# EAGLE library part AN221E02 (library Anadigm-1)
AN221E02 1x2 CAB Dynamically Reconfigurable FPAA two configurable I/O cells, two dedicated output cells
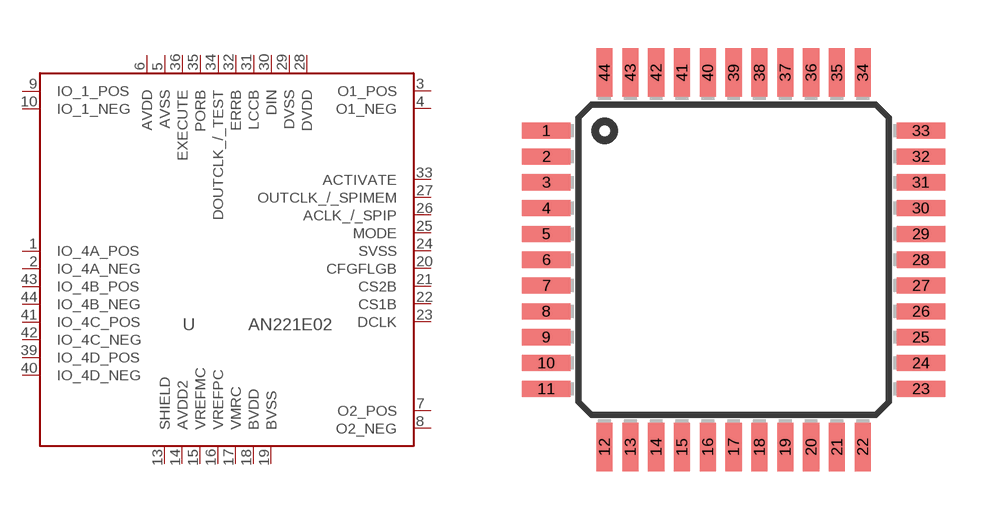
[diagram p4: symbol with the pads of QFP44; footprint QFP44]

Designator prefix -

## AN221E02  [QFP44]
1  IO_4A_POS
2  IO_4A_NEG
3  O1_POS  out
4  O1_NEG  out
5  AVSS  out
6  AVDD  out
7  O2_POS  out
8  O2_NEG  out
9  IO_1_POS
10  IO_1_NEG
13  SHIELD  in
14  AVDD2  out
15  VREFMC  out
16  VREFPC  out
17  VMRC  out
18  BVDD  out
19  BVSS  out
20  CFGFLGB  out
21  CS2B  out
22  CS1B  out
23  DCLK  out
24  SVSS  out
25  MODE  out
26  ACLK_/_SPIP  out
27  OUTCLK_/_SPIMEM  out
28  DVDD  out
29  DVSS  out
30  DIN  out
31  LCCB  out
32  ERRB  out
33  ACTIVATE  oc
34  DOUTCLK_/_TEST  out
35  PORB  out
36  EXECUTE  out
39  IO_4D_POS
40  IO_4D_NEG
41  IO_4C_POS
42  IO_4C_NEG
43  IO_4B_POS
44  IO_4B_NEG

## Footprint QFP44 (pad centres in mm)
Quad Flat Pack
smd 1.5 x 0.5: 1 -5.8,4; 2 -5.8,3.2; 3 -5.8,2.4; 4 -5.8,1.6; 5 -5.8,0.8; 6 -5.8,0; 7 -5.8,-0.8; 8 -5.8,-1.6; 9 -5.8,-2.4; 10 -5.8,-3.2; 11 -5.8,-4; 23 5.8,-4; 24 5.8,-3.2; 25 5.8,-2.4; 26 5.8,-1.6; 27 5.8,-0.8; 28 5.8,0; 29 5.8,0.8; 30 5.8,1.6; 31 5.8,2.4; 32 5.8,3.2; 33 5.8,4
smd 0.5 x 1.5: 12 -4,-5.8; 13 -3.2,-5.8; 14 -2.4,-5.8; 15 -1.6,-5.8; 16 -0.8,-5.8; 17 0,-5.8; 18 0.8,-5.8; 19 1.6,-5.8; 20 2.4,-5.8; 21 3.2,-5.8; 22 4,-5.8; 34 4,5.8; 35 3.2,5.8; 36 2.4,5.8; 37 1.6,5.8; 38 0.8,5.8; 39 0,5.8; 40 -0.8,5.8; 41 -1.6,5.8; 42 -2.4,5.8; 43 -3.2,5.8; 44 -4,5.8